# EAGLE library part SN754410 (library H-bridge)
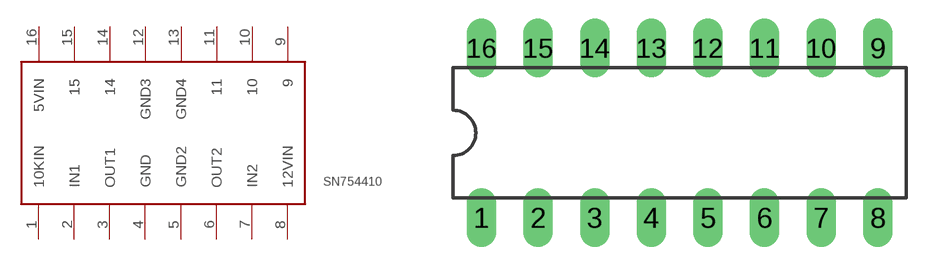
[diagram p0: symbol with the pads of DIL16; footprint DIL16]

Designator prefix -

## SN754410  [DIL16]
1  10KIN
2  IN1
3  OUT1
4  GND
5  GND2
6  OUT2
7  IN2
8  12VIN
9  9
10  10
11  11
12  GND3
13  GND4
14  14
15  15
16  5VIN

## Footprint DIL16 (pad centres in mm)
Dual In Line Package
drill 0.813 long: 1 -8.89,-3.81; 2 -6.35,-3.81; 3 -3.81,-3.81; 4 -1.27,-3.81; 5 1.27,-3.81; 6 3.81,-3.81; 7 6.35,-3.81; 8 8.89,-3.81; 9 8.89,3.81; 10 6.35,3.81; 11 3.81,3.81; 12 1.27,3.81; 13 -1.27,3.81; 14 -3.81,3.81; 15 -6.35,3.81; 16 -8.89,3.81